# Altium footprint library Full Wave Rectifier.PcbLib: 1 footprints
Each footprint in its own frame and in the unit in brackets; x right, y up, seen from the top. Pads: shape width x height; smd on the part's side, far side on the other; paste and mask are expansions set on the pad; w line width, h text height; cw(c..) or ccw(c..) is an arc to the next point about the centre after c.
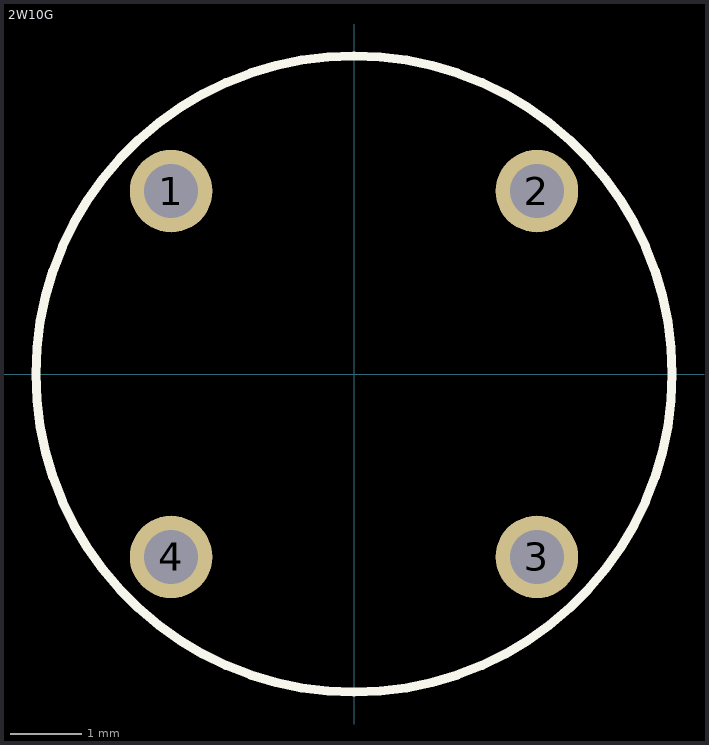
[diagram p0: the footprint, top view; thin cyan lines are the x and y axes]

## 2W10G [mm]
pads (4):
  round 1.15 hole 0.75: 1(-2.55,2.55) 2(2.55,2.55) 3(2.55,-2.55) 4(-2.55,-2.55)
Top Overlay:
  circle w0.127: c0,0 r4.435
3D body "2W10.step": height 9.65, standoff -25.4, extent -6.364,-6.364 6.364,6.364